# Altium footprint library con-phoenix-500.PCBLIB: 9 footprints
Each footprint in its own frame and in the unit in brackets; x right, y up, seen from the top. Pads: shape width x height; smd on the part's side, far side on the other; paste and mask are expansions set on the pad; w line width, h text height; cw(c..) or ccw(c..) is an arc to the next point about the centre after c.
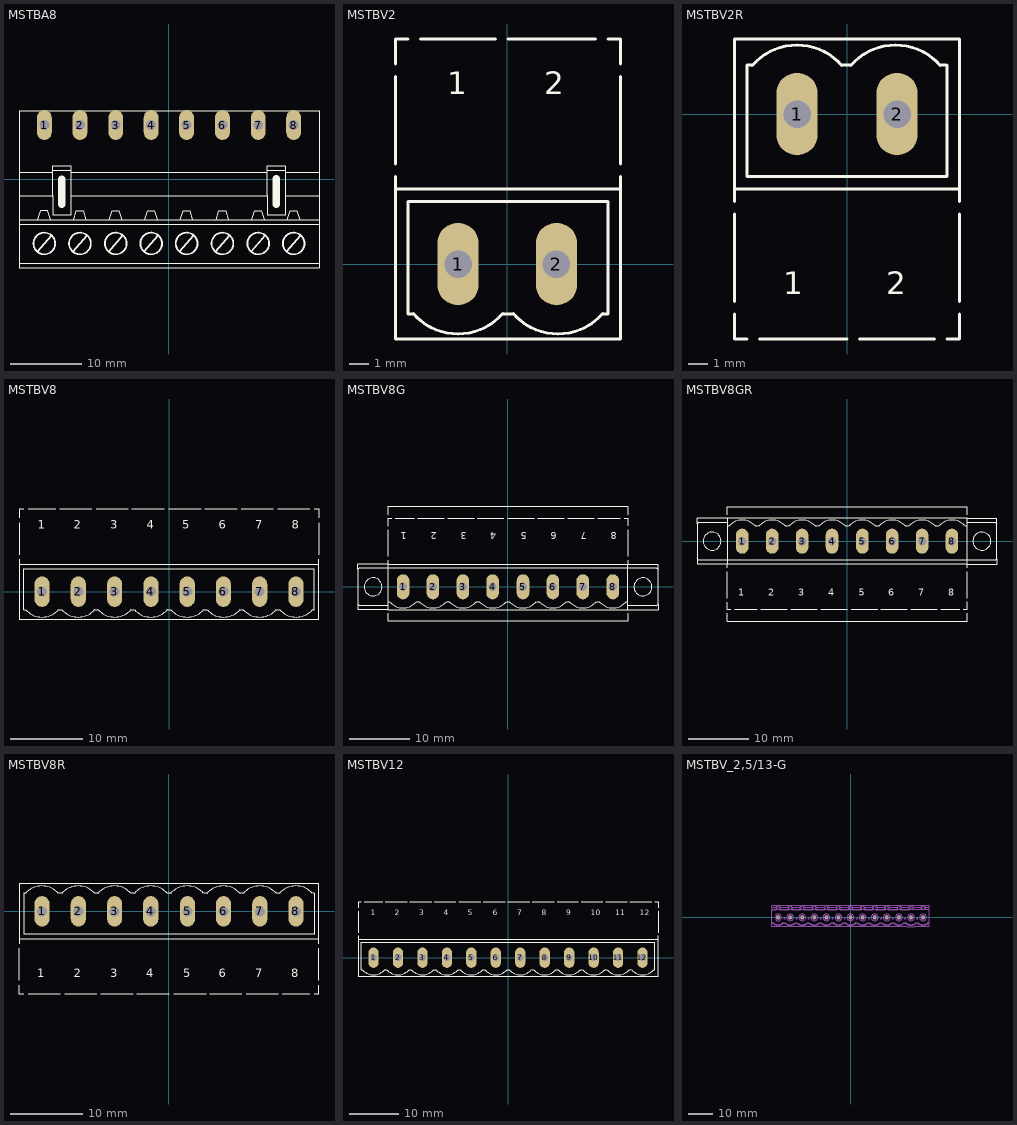
[diagram p0: the footprints below, top view; thin cyan lines are the x and y axes]

## MSTBA8 [mil]
pads (8):
  oval 82.5x165 hole 55: 1(-687.5,300) 2(-490.5,300) 3(-292.5,300) 4(-96.5,300) 5(99.5,300) 6(297.5,300) 7(495.5,300) 8(691.5,300)
Top Overlay:
  circle w10: c-687.5,-355 r60
  circle w10: c-490.5,-355 r60
  circle w10: c691.5,-355 r60
  circle w10: c495.5,-355 r60
  circle w10: c99.5,-355 r60
  circle w10: c-292.5,-355 r60
  circle w10: c-96.5,-355 r60
  circle w10: c297.5,-355 r60
  lines w6: -827.5,-465 -827.5,-490 831.5,-490 831.5,-465 ; -827.5,-465 831.5,-465 ; -827.5,-465 -827.5,-250 ; -827.5,-250 831.5,-250 ; -827.5,-250 -827.5,-225 ; -827.5,-225 -827.5,-90 ; -827.5,-225 -722.5,-225 ; -827.5,-90 -640.5,-90 ; -827.5,-90 -827.5,40 ; -827.5,40 -827.5,380 831.5,380 831.5,40 ; -827.5,40 -640.5,40 ; -722.5,-225 -707.5,-175 -667.5,-175 -652.5,-225 ; -722.5,-225 -652.5,-225 ; -652.5,-225 -525.5,-225 ; -640.5,-90 -640.5,40 ; -640.5,-90 -640.5,-200 -540.5,-200 -540.5,-90 ; -640.5,40 -640.5,50 ; -640.5,50 -540.5,50 ; -640.5,50 -640.5,75 -540.5,75 -540.5,50 ; -540.5,-90 -540.5,40 ; -540.5,-90 545.5,-90 ; -540.5,40 -540.5,50 ; -540.5,40 545.5,40 ; -525.5,-225 -510.5,-175 -470.5,-175 -455.5,-225 ; -525.5,-225 -455.5,-225 ; -455.5,-225 -327.5,-225 ; -327.5,-225 -312.5,-175 -272.5,-175 -257.5,-225 ; -327.5,-225 -257.5,-225 ; -257.5,-225 -131.5,-225 ; -131.5,-225 -116.5,-175 -76.5,-175 -61.5,-225 ; -131.5,-225 -61.5,-225 ; -61.5,-225 64.5,-225 ; 64.5,-225 79.5,-175 119.5,-175 134.5,-225 ; 64.5,-225 134.5,-225 ; 134.5,-225 262.5,-225 ; 262.5,-225 277.5,-175 317.5,-175 332.5,-225 ; 262.5,-225 332.5,-225 ; 332.5,-225 460.5,-225 ; 460.5,-225 475.5,-175 515.5,-175 530.5,-225 ; 460.5,-225 530.5,-225 ; 530.5,-225 656.5,-225 ; 545.5,-90 545.5,40 ; 545.5,-90 545.5,-200 645.5,-200 645.5,-90 ; 545.5,40 545.5,50 ; 545.5,50 645.5,50 ; 545.5,50 545.5,75 645.5,75 645.5,50 ; 645.5,-90 831.5,-90 ; 645.5,-90 645.5,40 ; 645.5,40 831.5,40 ; 645.5,40 645.5,50 ; 656.5,-225 671.5,-175 711.5,-175 726.5,-225 ; 656.5,-225 726.5,-225 ; 726.5,-225 831.5,-225 ; 831.5,-465 831.5,-250 ; 831.5,-250 831.5,-225 ; 831.5,-225 831.5,-90 ; 831.5,-90 831.5,40
  lines w10: -727.5,-400 -647.5,-310 ; -530.5,-400 -450.5,-310 ; -332.5,-400 -252.5,-310 ; -136.5,-400 -56.5,-310 ; 59.5,-400 139.5,-310 ; 257.5,-400 337.5,-310 ; 455.5,-400 535.5,-310 ; 651.5,-400 731.5,-310
  lines w40: -590.5,-140 -590.5,0 ; 595.5,-140 595.5,5
Mechanical 16:
  text "1" at -761.5,275 h77.5
  text "2" at -564.5,275 h77.5
  text "3" at -367.5,275 h77.5
  text "4" at -170.5,275 h77.5
  text "5" at 26.5,275 h77.5
  text "6" at 222.5,275 h77.5
  text "7" at 419.5,275 h77.5
  text "8" at 616.5,275 h77.5

## MSTBV2 [mil]
pads (2):
  oval 82.5x165 hole 55: 1(-98.43,0) 2(98.43,0)
Top Overlay:
  lines w6: -223.43,175 -223.43,150 ; -223.43,200 -223.43,375 ; -223.43,400 -223.43,450 -198.43,450 ; -188.43,-100 -198.43,-100 -198.43,125 201.57,125 201.57,-100 191.57,-100 ; -187.6,-99.28 ccw(c-98.43,-22) -98.43,-140 ccw(c-98.43,-22) -8.91,-98.88 ; -173.43,450 -23.43,450 ; -8.43,-100 11.57,-100 ; 1.57,450 176.57,450 ; 12.4,-99.28 ccw(c101.57,-22) 101.57,-140 ccw(c101.57,-22) 191.09,-98.88 ; 201.57,450 226.57,450 226.57,400 ; 226.57,175 226.57,150 ; 226.57,200 226.57,375 ; -223.43,150 226.57,150 ; -223.43,150 -223.43,-150 226.57,-150 226.57,150
  text "2" at 73.57,325 h77.5
  text "1" at -120.43,325 h77.5
Mechanical 16:
  lines w6: -123.43,-25 -123.43,25 ; -123.43,-25 -73.43,-25 ; -123.43,-25 -73.43,25 ; -123.43,25 -73.43,25 ; -123.43,25 -73.43,-25 ; -73.43,-25 -73.43,25 ; 73.43,-25 73.43,25 ; 73.43,-25 123.43,-25 ; 73.43,-25 123.43,25 ; 73.43,25 123.43,25 ; 73.43,25 123.43,-25 ; 123.43,-25 123.43,25

## MSTBV2R [mil]
pads (2):
  oval 82.5x165 hole 55: 1(-100,0) 2(100,0)
Top Overlay:
  lines w6: -225,-400 -225,-450 -200,-450 ; -225,-375 -225,-200 ; -225,-175 -225,-150 ; -190,98 -200,98 -200,-125 200,-125 200,98 ; -189.52,96.88 cw(c-100,20) -100,138 cw(c-100,20) -10.83,97.28 ; -175,-450 0,-450 ; -10,98 7,98 ; 7.48,96.88 cw(c97,20) 97,138 cw(c97,20) 186.17,97.28 ; 25,-450 175,-450 ; 187,98 197,98 ; 200,-450 225,-450 225,-400 ; 225,-375 225,-200 ; 225,-175 225,-150 ; -225,-150 -225,150 225,150 225,-150 ; -225,-150 225,-150
  text "2" at 78,-375 h77.5
  text "1" at -128,-375 h77.5
Mechanical 16:
  lines w6: -125,-25 -125,25 ; -125,-25 -75,-25 ; -125,-25 -75,25 ; -125,25 -75,25 ; -125,25 -75,-25 ; -75,-25 -75,25 ; 75,-25 75,25 ; 75,-25 125,-25 ; 75,-25 125,25 ; 75,25 125,25 ; 75,25 125,-25 ; 125,-25 125,25

## MSTBV8 [mil]
pads (8):
  oval 82.5x165 hole 55: 1(-689,0) 2(-492,0) 3(-295,0) 4(-98,0) 5(99,0) 6(295,0) 7(492,0) 8(689,0)
Top Overlay:
  lines w6: -814,175 -814,150 ; -814,200 -814,375 ; -814,400 -814,450 -789,450 ; -779,-98 -789,-98 -789,125 789,125 789,-98 779,-98 ; -778.17,-97.28 ccw(c-689,-20) -689,-138 ccw(c-689,-20) -599.48,-96.88 ; -764,450 -614,450 ; -599,-98 -582,-98 ; -593,450 -418,450 ; -581.17,-97.28 ccw(c-492,-20) -492,-138 ccw(c-492,-20) -402.48,-96.88 ; -404,-98 -385,-98 ; -396,450 -221,450 ; -384.17,-97.28 ccw(c-295,-20) -295,-138 ccw(c-295,-20) -205.48,-96.88 ; -207,-98 -188,-98 ; -201,450 -26,450 ; -187.17,-97.28 ccw(c-98,-20) -98,-138 ccw(c-98,-20) -8.48,-96.88 ; -9,-98 9,-98 ; -1,450 174,450 ; 9.83,-97.28 ccw(c99,-20) 99,-138 ccw(c99,-20) 188.52,-96.88 ; 189,-98 206,-98 ; 195,450 370,450 ; 206.83,-97.28 ccw(c296,-20) 296,-138 ccw(c296,-20) 385.52,-96.88 ; 386,-98 403,-98 ; 392,450 567,450 ; 403.83,-97.28 ccw(c493,-20) 493,-138 ccw(c493,-20) 582.52,-96.88 ; 583,-98 600,-98 ; 589,450 764,450 ; 600.83,-97.28 ccw(c690,-20) 690,-138 ccw(c690,-20) 779.52,-96.88 ; 789,450 814,450 814,400 ; 814,175 814,150 ; 814,200 814,375 ; -814,150 -814,-150 814,-150 814,150 ; -814,150 814,150
  text "1" at -713,326 h77.5
  text "2" at -517,326 h77.5
  text "3" at -320,325 h77.5
  text "4" at -122,326 h77.5
  text "5" at 71,326 h77.5
  text "6" at 271,326 h77.5
  text "7" at 467,326 h77.5
  text "8" at 665,325 h77.5
Mechanical 16:
  lines w6: -714,-25 -714,25 ; -714,-25 -664,-25 ; -714,-25 -664,25 ; -714,25 -664,25 ; -714,25 -664,-25 ; -664,-25 -664,25 ; -517,-25 -517,25 ; -517,-25 -467,-25 ; -517,-25 -467,25 ; -517,25 -467,25 ; -517,25 -467,-25 ; -467,-25 -467,25 ; -320,-25 -320,25 ; -320,-25 -270,-25 ; -320,-25 -270,25 ; -320,25 -270,25 ; -320,25 -270,-25 ; -270,-25 -270,25 ; -123,-25 -123,25 ; -123,-25 -73,-25 ; -123,-25 -73,25 ; -123,25 -73,25 ; -123,25 -73,-25 ; -73,-25 -73,25 ; 74,-25 74,25 ; 74,-25 124,-25 ; 74,-25 124,25 ; 74,25 124,25 ; 74,25 124,-25 ; 124,-25 124,25 ; 270,-25 270,25 ; 270,-25 320,-25 ; 270,-25 320,25 ; 270,25 320,25 ; 270,25 320,-25 ; 320,-25 320,25 ; 467,-25 467,25 ; 467,-25 517,-25 ; 467,-25 517,25 ; 467,25 517,25 ; 467,25 517,-25 ; 517,-25 517,25 ; 664,-25 664,25 ; 664,-25 714,-25 ; 664,-25 714,25 ; 664,25 714,25 ; 664,25 714,-25 ; 714,-25 714,25

## MSTBV8G [mil]
pads (8):
  oval 82.5x165 hole 55: 1(-688.98,0) 2(-492.98,0) 3(-295.98,0) 4(-100.98,0) 5(99.02,0) 6(295.02,0) 7(492.02,0) 8(689.02,0)
Top Overlay:
  circle w6: c-885.98,0 r59
  circle w6: c887.02,0 r59
  lines w6: -787.99,-172.99 -787.99,-225 788.03,-225 788.03,-172.99 ; -787.99,175 -787.99,150 ; -787.99,200 -787.99,375.98 ; -787.99,397.99 -787.99,450 -762.99,450 ; -787.99,475 -787.99,525 788.03,525 788.03,475 ; -779.96,-97.99 -787.99,-97.99 ; -779.15,-97.28 ccw(c-689.98,-20) -689.98,-138 ccw(c-689.98,-20) -600.46,-96.88 ; -738.98,450 -613.98,450 ; -600.98,-97.99 -582.99,-97.99 ; -592.99,450 -417.99,450 ; -582.15,-97.28 ccw(c-492.98,-20) -492.98,-138 ccw(c-492.98,-20) -403.46,-96.88 ; -403.98,-97.99 -385.98,-97.99 ; -395.98,450 -220.98,450 ; -385.15,-97.28 ccw(c-295.98,-20) -295.98,-138 ccw(c-295.98,-20) -206.46,-96.88 ; -206.97,-97.99 -188.98,-97.99 ; -200.98,450 -25.98,450 ; -188.15,-97.28 ccw(c-98.98,-20) -98.98,-138 ccw(c-98.98,-20) -9.46,-96.88 ; -8.98,-97.99 8.03,-97.99 ; -0.98,450 174.02,450 ; 8.85,-97.28 ccw(c98.02,-20) 98.02,-138 ccw(c98.02,-20) 187.54,-96.88 ; 189.02,-97.99 205.04,-97.99 ; 195.04,450 370.04,450 ; 205.85,-97.28 ccw(c295.02,-20) 295.02,-138 ccw(c295.02,-20) 384.54,-96.88 ; 386.02,-97.99 402.01,-97.99 ; 392.01,450 567.01,450 ; 402.85,-97.28 ccw(c492.02,-20) 492.02,-138 ccw(c492.02,-20) 581.54,-96.88 ; 583.03,-97.99 599.02,-97.99 ; 589.02,450 739.02,450 ; 599.85,-97.28 ccw(c689.02,-20) 689.02,-138 ccw(c689.02,-20) 778.54,-96.88 ; 764.02,450 788.03,450 788.03,400 ; 778.03,-97.99 788.03,-97.99 ; 788.03,175 788.03,150 ; 788.03,200 788.03,375 ; -984.96,-115 -974.96,-125 -787.99,-125 ; -984.96,-115 -984.96,115 ; -984.96,-115 -984.96,-150 -787.99,-150 ; -984.96,115 -974.96,125 -787.99,125 ; -984.96,115 -984.96,150 -787.99,150 ; -787.99,-150 -787.99,-125 ; -787.99,-150 788.03,-150 ; -787.99,-125 -787.99,-97.99 ; -787.99,-97.99 -787.99,125 ; -787.99,125 -787.99,150 ; -787.99,125 788.03,125 ; -787.99,150 788.03,150 ; 788.03,-150 788.03,-125 ; 788.03,-150 986.02,-150 986.02,-115 ; 788.03,-125 788.03,-97.99 ; 788.03,-125 976.02,-125 986.02,-115 ; 788.03,-97.99 788.03,125 ; 788.03,125 788.03,150 ; 788.03,125 976.02,125 986.02,115 ; 788.03,150 986.02,150 986.02,115 ; 986.02,-115 986.02,115
  text "1" at -663.98,375 h77.5
  text "2" at -467.98,375 h77.5
  text "3" at -270.98,375 h77.5
  text "4" at -75.98,375 h77.5
  text "5" at 124.02,375 h77.5
  text "6" at 320.02,375 h77.5
  text "7" at 517.02,375 h77.5
  text "8" at 714.02,375 h77.5
Mechanical 16:
  lines w6: -713.98,-25 -713.98,25 ; -713.98,-25 -663.98,-25 ; -713.98,-25 -663.98,25 ; -713.98,25 -663.98,25 ; -713.98,25 -663.98,-25 ; -663.98,-25 -663.98,25 ; -517.99,-25 -517.99,25 ; -517.99,-25 -467.99,-25 ; -517.99,-25 -467.99,25 ; -517.99,25 -467.99,25 ; -517.99,25 -467.99,-25 ; -467.99,-25 -467.99,25 ; -320.98,-25 -320.98,25 ; -320.98,-25 -270.98,-25 ; -320.98,-25 -270.98,25 ; -320.98,25 -270.98,25 ; -320.98,25 -270.98,-25 ; -270.98,-25 -270.98,25 ; -125.98,-25 -125.98,25 ; -125.98,-25 -75.98,-25 ; -125.98,-25 -75.98,25 ; -125.98,25 -75.98,25 ; -125.98,25 -75.98,-25 ; -75.98,-25 -75.98,25 ; 74.02,-25 74.02,25 ; 74.02,-25 124.02,-25 ; 74.02,-25 124.02,25 ; 74.02,25 124.02,25 ; 74.02,25 124.02,-25 ; 124.02,-25 124.02,25 ; 270.04,-25 270.04,25 ; 270.04,-25 320.04,-25 ; 270.04,-25 320.04,25 ; 270.04,25 320.04,25 ; 270.04,25 320.04,-25 ; 320.04,-25 320.04,25 ; 467.01,-25 467.01,25 ; 467.01,-25 517.01,-25 ; 467.01,-25 517.01,25 ; 467.01,25 517.01,25 ; 467.01,25 517.01,-25 ; 517.01,-25 517.01,25 ; 664.02,-25 664.02,25 ; 664.02,-25 714.02,-25 ; 664.02,-25 714.02,25 ; 664.02,25 714.02,25 ; 664.02,25 714.02,-25 ; 714.02,-25 714.02,25

## MSTBV8GR [mil]
pads (8):
  oval 82.5x165 hole 55: 1(-688.98,0) 2(-491.98,0) 3(-294.98,0) 4(-98.98,0) 5(101.02,0) 6(296.02,0) 7(493.02,0) 8(689.02,0)
Top Overlay:
  circle w6: c886.02,0 r59
  circle w6: c-886.98,0 r59
  lines w6: -787.99,-475 -787.99,-525 788.03,-525 788.03,-475 ; -787.99,-400 -787.99,-450 -763.98,-450 ; -787.99,-375 -787.99,-200 ; -787.99,-175 -787.99,-150 ; -787.99,172.99 -787.99,225 788.03,225 788.03,172.99 ; -778.5,96.88 cw(c-688.98,20) -688.98,138 cw(c-688.98,19.99) -599.8,97.28 ; -777.99,97.99 -787.99,97.99 ; -738.98,-450 -588.98,-450 ; -598.98,97.99 -582.99,97.99 ; -581.5,96.88 cw(c-491.98,20) -491.98,138 cw(c-491.98,19.99) -402.8,97.28 ; -566.97,-450 -391.97,-450 ; -401.97,97.99 -385.98,97.99 ; -384.5,96.88 cw(c-294.98,20) -294.98,138 cw(c-294.98,19.99) -205.8,97.28 ; -369.96,-450 -194.96,-450 ; -204.96,97.99 -188.98,97.99 ; -187.5,96.88 cw(c-97.98,20) -97.98,138 cw(c-97.98,19.99) -8.8,97.28 ; -173.98,-450 1.02,-450 ; -7.99,97.99 9.02,97.99 ; 9.5,96.88 cw(c99.02,20) 99.02,138 cw(c99.02,19.99) 188.2,97.28 ; 26.02,-450 201.02,-450 ; 189.02,97.99 207.01,97.99 ; 206.5,96.88 cw(c296.02,20) 296.02,138 cw(c296.02,19.99) 385.2,97.28 ; 221.02,-450 396.02,-450 ; 386.02,97.99 404.02,97.99 ; 403.5,96.88 cw(c493.02,20) 493.02,138 cw(c493.02,19.99) 582.2,97.28 ; 418.03,-450 593.03,-450 ; 583.03,97.99 601.02,97.99 ; 600.5,96.88 cw(c690.02,20) 690.02,138 cw(c690.02,19.99) 779.2,97.28 ; 614.02,-450 739.02,-450 ; 763.03,-450 788.03,-450 788.03,-397.99 ; 780.04,97.99 788.03,97.99 ; 788.03,-375.98 788.03,-200 ; 788.03,-175 788.03,-150 ; -985.98,-115 -975.98,-125 -787.99,-125 ; -985.98,-115 -985.98,115 ; -985.98,-115 -985.98,-150 -787.99,-150 ; -985.98,115 -975.98,125 -787.99,125 ; -985.98,115 -985.98,150 -787.99,150 ; -787.99,-150 788.03,-150 ; -787.99,-150 -787.99,-125 ; -787.99,-125 788.03,-125 ; -787.99,-125 -787.99,97.99 ; -787.99,97.99 -787.99,125 ; -787.99,125 -787.99,150 ; -787.99,150 788.03,150 ; 788.03,-150 788.03,-125 ; 788.03,-150 985.04,-150 985.04,-115 ; 788.03,-125 788.03,97.99 ; 788.03,-125 975.04,-125 985.04,-115 ; 788.03,97.99 788.03,125 ; 788.03,125 788.03,150 ; 788.03,125 975.04,125 985.04,115 ; 788.03,150 985.04,150 985.04,115 ; 985.04,-115 985.04,115
  text "1" at -713.98,-375 h77.5
  text "2" at -516.98,-375 h77.5
  text "3" at -319.98,-375 h77.5
  text "4" at -123.98,-375 h77.5
  text "5" at 76.02,-375 h77.5
  text "6" at 271.02,-375 h77.5
  text "7" at 468.02,-375 h77.5
  text "8" at 664.02,-375 h77.5
Mechanical 16:
  lines w6: -713.98,-25 -713.98,25 ; -713.98,-25 -663.98,-25 ; -713.98,-25 -663.98,25 ; -713.98,25 -663.98,25 ; -713.98,25 -663.98,-25 ; -663.98,-25 -663.98,25 ; -516.97,-25 -516.97,25 ; -516.97,-25 -466.97,-25 ; -516.97,-25 -466.97,25 ; -516.97,25 -466.97,25 ; -516.97,25 -466.97,-25 ; -466.97,-25 -466.97,25 ; -319.96,-25 -319.96,25 ; -319.96,-25 -269.96,-25 ; -319.96,-25 -269.96,25 ; -319.96,25 -269.96,25 ; -319.96,25 -269.96,-25 ; -269.96,-25 -269.96,25 ; -123.98,-25 -123.98,25 ; -123.98,-25 -73.98,-25 ; -123.98,-25 -73.98,25 ; -123.98,25 -73.98,25 ; -123.98,25 -73.98,-25 ; -73.98,-25 -73.98,25 ; 76.02,-25 76.02,25 ; 76.02,-25 126.02,-25 ; 76.02,-25 126.02,25 ; 76.02,25 126.02,25 ; 76.02,25 126.02,-25 ; 126.02,-25 126.02,25 ; 271.02,-25 271.02,25 ; 271.02,-25 321.02,-25 ; 271.02,-25 321.02,25 ; 271.02,25 321.02,25 ; 271.02,25 321.02,-25 ; 321.02,-25 321.02,25 ; 468.03,-25 468.03,25 ; 468.03,-25 518.03,-25 ; 468.03,-25 518.03,25 ; 468.03,25 518.03,25 ; 468.03,25 518.03,-25 ; 518.03,-25 518.03,25 ; 664.02,-25 664.02,25 ; 664.02,-25 714.02,-25 ; 664.02,-25 714.02,25 ; 664.02,25 714.02,25 ; 664.02,25 714.02,-25 ; 714.02,-25 714.02,25

## MSTBV8R [mil]
pads (8):
  oval 82.5x165 hole 55: 1(-688.98,0) 2(-491.98,0) 3(-294.98,0) 4(-98.98,0) 5(101.02,0) 6(296.02,0) 7(493.02,0) 8(689.02,0)
Top Overlay:
  lines w6: -813.98,-400 -813.98,-450 -788.98,-450 ; -813.98,-375 -813.98,-200 ; -813.98,-175 -813.98,-150 ; -779.5,96.88 cw(c-689.98,20) -689.98,138 cw(c-689.98,19.99) -600.8,97.28 ; -778.98,97.99 -788.98,97.99 -788.98,-125 789.02,-125 789.02,97.99 779.02,97.99 ; -763.98,-450 -588.98,-450 ; -599.96,97.99 -582.99,97.99 ; -582.5,96.88 cw(c-492.98,20) -492.98,138 cw(c-492.98,19.99) -403.8,97.28 ; -566.97,-450 -391.97,-450 ; -402.99,97.99 -385.98,97.99 ; -385.5,96.88 cw(c-295.98,20) -295.98,138 cw(c-295.98,19.99) -206.8,97.28 ; -369.96,-450 -194.96,-450 ; -205.98,97.99 -188.98,97.99 ; -188.5,96.88 cw(c-98.98,20) -98.98,138 cw(c-98.98,19.99) -9.8,97.28 ; -173.98,-450 1.02,-450 ; -8.98,97.99 9.02,97.99 ; 8.5,96.88 cw(c98.02,20) 98.02,138 cw(c98.02,19.99) 187.2,97.28 ; 26.02,-450 201.02,-450 ; 188.03,97.99 207.01,97.99 ; 205.5,96.88 cw(c295.02,20) 295.02,138 cw(c295.02,19.99) 384.2,97.28 ; 221.02,-450 396.02,-450 ; 385.04,97.99 404.02,97.99 ; 402.5,96.88 cw(c492.02,20) 492.02,138 cw(c492.02,19.99) 581.2,97.28 ; 418.03,-450 593.03,-450 ; 582.01,97.99 599.02,97.99 ; 599.5,96.88 cw(c689.02,20) 689.02,138 cw(c689.02,19.99) 778.2,97.28 ; 614.02,-450 764.02,-450 ; 789.02,-450 814.02,-450 814.02,-400 ; 814.02,-375 814.02,-200 ; 814.02,-175 814.02,-150 ; -813.98,-150 -813.98,150 814.02,150 814.02,-150 ; -813.98,-150 814.02,-150
  text "1" at -713.98,-375 h77.5
  text "2" at -516.98,-375 h77.5
  text "3" at -319.98,-375 h77.5
  text "4" at -123.98,-375 h77.5
  text "5" at 76.02,-375 h77.5
  text "6" at 271.02,-375 h77.5
  text "7" at 468.02,-375 h77.5
  text "8" at 664.02,-375 h77.5
Mechanical 16:
  lines w6: -713.98,-25 -713.98,25 ; -713.98,-25 -663.98,-25 ; -713.98,-25 -663.98,25 ; -713.98,25 -663.98,25 ; -713.98,25 -663.98,-25 ; -663.98,-25 -663.98,25 ; -516.97,-25 -516.97,25 ; -516.97,-25 -466.97,-25 ; -516.97,-25 -466.97,25 ; -516.97,25 -466.97,25 ; -516.97,25 -466.97,-25 ; -466.97,-25 -466.97,25 ; -319.96,-25 -319.96,25 ; -319.96,-25 -269.96,-25 ; -319.96,-25 -269.96,25 ; -319.96,25 -269.96,25 ; -319.96,25 -269.96,-25 ; -269.96,-25 -269.96,25 ; -123.98,-25 -123.98,25 ; -123.98,-25 -73.98,-25 ; -123.98,-25 -73.98,25 ; -123.98,25 -73.98,25 ; -123.98,25 -73.98,-25 ; -73.98,-25 -73.98,25 ; 76.02,-25 76.02,25 ; 76.02,-25 126.02,-25 ; 76.02,-25 126.02,25 ; 76.02,25 126.02,25 ; 76.02,25 126.02,-25 ; 126.02,-25 126.02,25 ; 271.02,-25 271.02,25 ; 271.02,-25 321.02,-25 ; 271.02,-25 321.02,25 ; 271.02,25 321.02,25 ; 271.02,25 321.02,-25 ; 321.02,-25 321.02,25 ; 468.03,-25 468.03,25 ; 468.03,-25 518.03,-25 ; 468.03,-25 518.03,25 ; 468.03,25 518.03,25 ; 468.03,25 518.03,-25 ; 518.03,-25 518.03,25 ; 664.02,-25 664.02,25 ; 664.02,-25 714.02,-25 ; 664.02,-25 714.02,25 ; 664.02,25 714.02,25 ; 664.02,25 714.02,-25 ; 714.02,-25 714.02,25

## MSTBV12 [mil]
pads (12):
  oval 82.5x165 hole 55: 1(-1082.68,0) 2(-885.68,0) 3(-688.68,0) 4(-491.68,0) 5(-295.68,0) 6(-98.68,0) 7(98.32,0) 8(295.32,0) 9(492.32,0) 10(689.32,0) 11(886.32,0) 12(1082.32,0)
Top Overlay:
  lines w6: -1207.68,175 -1207.68,150 ; -1207.68,200 -1207.68,375 ; -1207.68,400 -1207.68,450 -1182.68,450 ; -1172.68,-97.99 -1182.68,-97.99 -1182.68,125 1182.32,125 1182.32,-97.99 1172.32,-97.99 ; -1171.85,-97.28 ccw(c-1082.68,-20) -1082.68,-138 ccw(c-1082.68,-20) -993.16,-96.88 ; -1157.68,450 -1007.68,450 ; -992.68,-97.99 -975.67,-97.99 ; -986.69,450 -811.69,450 ; -974.85,-97.28 ccw(c-885.68,-20) -885.68,-138 ccw(c-885.68,-20) -796.16,-96.88 ; -797.68,-97.99 -778.66,-97.99 ; -789.69,450 -614.69,450 ; -777.85,-97.28 ccw(c-688.68,-20) -688.68,-138 ccw(c-688.68,-20) -599.16,-96.88 ; -600.67,-97.99 -581.69,-97.99 ; -594.69,450 -419.69,450 ; -580.85,-97.28 ccw(c-491.68,-20) -491.68,-138 ccw(c-491.68,-20) -402.16,-96.88 ; -402.68,-97.99 -384.69,-97.99 ; -394.69,450 -219.69,450 ; -383.85,-97.28 ccw(c-294.68,-20) -294.68,-138 ccw(c-294.68,-20) -205.16,-96.88 ; -204.69,-97.99 -187.68,-97.99 ; -198.66,450 -23.66,450 ; -186.85,-97.28 ccw(c-97.68,-20) -97.68,-138 ccw(c-97.68,-20) -8.16,-96.88 ; -7.68,-97.99 9.33,-97.99 ; -1.69,450 173.31,450 ; 10.15,-97.28 ccw(c99.32,-20) 99.32,-138 ccw(c99.32,-20) 188.84,-96.88 ; 189.33,-97.99 206.34,-97.99 ; 195.32,450 370.32,450 ; 206.15,-97.28 ccw(c295.32,-20) 295.32,-138 ccw(c295.32,-20) 384.84,-96.88 ; 385.32,-97.99 402.32,-97.99 ; 395.32,450 567.32,450 ; 403.15,-97.28 ccw(c492.32,-20) 492.32,-138 ccw(c492.32,-20) 581.84,-96.88 ; 580.32,-97.99 599.33,-97.99 ; 588.31,450 763.31,450 ; 600.15,-97.28 ccw(c689.32,-20) 689.32,-138 ccw(c689.32,-20) 778.84,-96.88 ; 777.32,-97.99 796.34,-97.99 ; 785.32,450 960.32,450 ; 797.15,-97.28 ccw(c886.32,-20) 886.32,-138 ccw(c886.32,-20) 975.84,-96.88 ; 975.32,-97.99 993.31,-97.99 ; 980.32,450 1155.31,450 ; 994.15,-97.28 ccw(c1083.32,-20) 1083.32,-138 ccw(c1083.32,-20) 1172.84,-96.88 ; 1182.32,450 1207.32,450 1207.32,400 ; 1207.32,175 1207.32,150 ; 1207.32,200 1207.32,375 ; -1207.68,150 -1207.68,-150 1207.32,-150 1207.32,150 ; -1207.68,150 1207.32,150
  text "1" at -1106.68,326 h77.5
  text "2" at -910.68,326 h77.5
  text "3" at -713.68,325 h77.5
  text "4" at -515.68,326 h77.5
  text "5" at -322.68,326 h77.5
  text "6" at -122.68,326 h77.5
  text "7" at 73.32,326 h77.5
  text "8" at 271.32,325 h77.5
  text "9" at 468.32,326 h77.5
  text "10" at 664.32,326 h77.5
  text "11" at 861.32,325 h77.5
  text "12" at 1059.32,326 h77.5
Mechanical 16:
  lines w6: -1107.68,-25 -1107.68,25 ; -1107.68,-25 -1057.68,-25 ; -1107.68,-25 -1057.68,25 ; -1107.68,25 -1057.68,25 ; -1107.68,25 -1057.68,-25 ; -1057.68,-25 -1057.68,25 ; -910.67,-25 -910.67,25 ; -910.67,-25 -860.67,-25 ; -910.67,-25 -860.67,25 ; -910.67,25 -860.67,25 ; -910.67,25 -860.67,-25 ; -860.67,-25 -860.67,25 ; -713.66,-25 -713.66,25 ; -713.66,-25 -663.66,-25 ; -713.66,-25 -663.66,25 ; -713.66,25 -663.66,25 ; -713.66,25 -663.66,-25 ; -663.66,-25 -663.66,25 ; -516.69,-25 -516.69,25 ; -516.69,-25 -466.69,-25 ; -516.69,-25 -466.69,25 ; -516.69,25 -466.69,25 ; -516.69,25 -466.69,-25 ; -466.69,-25 -466.69,25 ; -320.67,-25 -320.67,25 ; -320.67,-25 -270.67,-25 ; -320.67,-25 -270.67,25 ; -320.67,25 -270.67,25 ; -320.67,25 -270.67,-25 ; -270.67,-25 -270.67,25 ; -123.66,-25 -123.66,25 ; -123.66,-25 -73.66,-25 ; -123.66,-25 -73.66,25 ; -123.66,25 -73.66,25 ; -123.66,25 -73.66,-25 ; -73.66,-25 -73.66,25 ; 73.31,-25 73.31,25 ; 73.31,-25 123.31,-25 ; 73.31,-25 123.31,25 ; 73.31,25 123.31,25 ; 73.31,25 123.31,-25 ; 123.31,-25 123.31,25 ; 270.32,-25 270.32,25 ; 270.32,-25 320.32,-25 ; 270.32,-25 320.32,25 ; 270.32,25 320.32,25 ; 270.32,25 320.32,-25 ; 320.32,-25 320.32,25 ; 467.32,-25 467.32,25 ; 467.32,-25 517.32,-25 ; 467.32,-25 517.32,25 ; 467.32,25 517.32,25 ; 467.32,25 517.32,-25 ; 517.32,-25 517.32,25 ; 664.33,-25 664.33,25 ; 664.33,-25 714.33,-25 ; 664.33,-25 714.33,25 ; 664.33,25 714.33,25 ; 664.33,25 714.33,-25 ; 714.33,-25 714.33,25 ; 861.34,-25 861.34,25 ; 861.34,-25 911.34,-25 ; 861.34,-25 911.34,25 ; 861.34,25 911.34,25 ; 861.34,25 911.34,-25 ; 911.34,-25 911.34,25 ; 1057.32,-25 1057.32,25 ; 1057.32,-25 1107.32,-25 ; 1057.32,-25 1107.32,25 ; 1057.32,25 1107.32,25 ; 1057.32,25 1107.32,-25 ; 1107.32,-25 1107.32,25

## MSTBV_2,5/13-G [mil]
pads (13):
  round 56 hole 39.37: 1(-1181.1,0) 2(-984.25,0) 3(-787.4,0) 4(-590.55,0) 5(-393.7,0) 6(-196.85,0) 7(0,0) 8(196.85,0) 9(393.7,0) 10(590.55,0) 11(787.4,0) 12(984.25,0) 13(1181.1,0)
Mechanical 14:
  drawing of 429 lines, arcs and shapes, not listed
Mechanical 16:
  drawing of 624 lines, arcs and shapes, not listed